# EAGLE library part MNR (library laforge)
Rohm 8-element Chip Resistor Network MNR35 (1206x5 size)
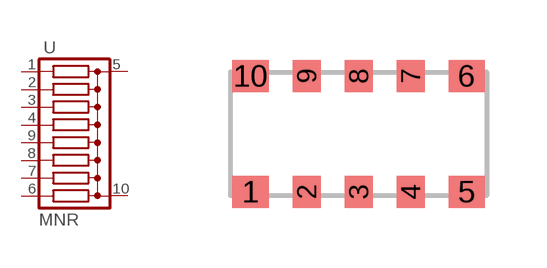
[diagram p5: symbol with the pads of MNR35; footprint MNR35]

Designator prefix -

## MNR  [MNR35]
1  1  pas
2  2  pas
3  3  pas
4  4  pas
5  C  pas
6  8  pas
7  7  pas
8  6  pas
9  5  pas
10  D  pas

## Footprint MNR35 (pad centres in mm)
smd 0.9 x 0.8: 1 -2.7,-1.45; 5 2.7,-1.45; 6 2.7,1.45; 10 -2.7,1.45
smd 0.7 x 0.8: 2 -1.3,-1.45; 3 0,-1.45; 4 1.3,-1.45; 7 1.3,1.45; 8 0,1.45; 9 -1.3,1.45